# Altium integrated library PMIC-L7805CV-DG_TO-220_.IntLib: 1 symbol
Pins are listed as number, name and electrical type; pins without a type are passive.

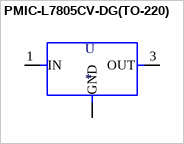
[diagram p0: symbol PMIC-L7805CV-DG(TO-220)]

## PMIC-L7805CV-DG(TO-220)
designator U
Linear Voltage Regulator IC 1 Output 1.5A TO-220; MP: L7805CV-DG; MF: STMicroelectronics; Price: None; Package: TO-220 STMicroelectronics; Value: *; Availability: Unavailable; SnapEDA_Link: https://www.snapeda.com/parts/L7805CV-DG/STMicroelectronics/view-part/105746/?ref=snap
footprint TO-220
pins: 1 IN (io), 2 GND (io), 3 OUT (io), HEAT GND (io)